# EAGLE library part GENERIC-SIP-9_ (library newNVSL)
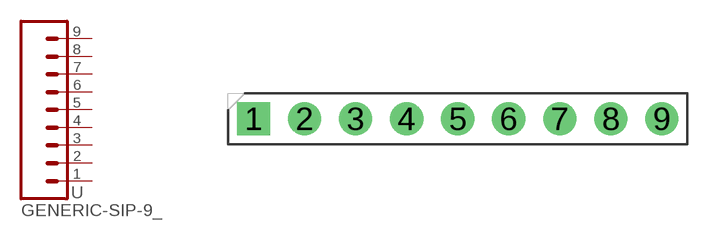
[diagram p13: symbol with the pads of HDRV9W63P254_9X1_2286X254H838; footprint HDRV9W63P254_9X1_2286X254H838]

Designator prefix -

## GENERIC-SIP-9_2.54-SPACE-VERTICAL  [HDRV9W63P254_9X1_2286X254H838]
1  1  pas
2  2  pas
3  3  pas
4  4  pas
5  5  pas
6  6  pas
7  7  pas
8  8  pas
9  9  pas

## Footprint HDRV9W63P254_9X1_2286X254H838 (pad centres in mm)
drill 1.1 pad 1.65 square: 1 0,0
drill 1.1 pad 1.65: 2 2.54,0; 3 5.08,0; 4 7.62,0; 5 10.16,0; 6 12.7,0; 7 15.24,0; 8 17.78,0; 9 20.32,0